# Altium schematic symbol library Resistors-2512-Shunt.SchLib: 2 symbols
Pins are listed as number, name and electrical type; pins without a type are passive.

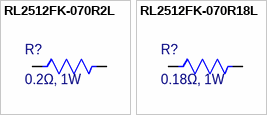
[diagram p0: symbols RL2512FK-070R2L to RL2512FK-070R18L]

## RL2512FK-070R2L
designator R?, comment 0.2Ω, 1W
RES 0.2 OHM 1% 1W 2512; Manufacturer: Yageo Group; Manufacturer Part Number: RL2512FK-070R2L; Description: 1W Thick Film Resistors ±1% ±600ppm/℃ 200mΩ 2512 Chip Resistor - Surface Mount ROHS; Value: 200mΩ; Temperature Coefficient: 600ppm/°C; Working Voltage: 447.2mV; Supplier: DigiKey; Supplier Part Number: 311-0.2TCT-ND; RoHS: Compliant; Category: Chip SMD Resistors; Stock: 22890; Pricing: 1=0.44, 10=0.249, 25=0.206, 50=0.1814, 100=0.1618, 250=0.142, 500=0.13056, 1000=0.12148 (USD); Case/Package: 2512; Case Code (Imperial): 2512; Case Code (Metric): 6332; China RoHS: Non-Compliant; Composition: Thick Film; Contact Plating: Lead, Tin; Country of Origin: Mainland China, Taiwan; Depth: 3.2mm; Export Control Classification Number (ECCN) Code: EAR99; Height: 550µm; Harmonized Tariff Schedule (HTS) Code: 8533.21.00.30; Introduction Date: 2005-04-15; Lead Free: Lead Free; Length: 6.35mm; Lifecycle Status: Production; Max Operating Temperature: 155°C; Military Standard: Not; Min Operating Temperature: -55°C; Mounting Technology: Surface Mount; Number of Terminals: 2; Power Rating: 1W; Ratings: AEC-Q200; REACH SVHC: Yes; Schedule B: 8533210045, 8533210045|8533210045, 8533210045|8533210045|8533210045, 8533210045|8533210045|8533210045|8533210045; Termination: SMD/SMT; Tolerance: 1%; Weight: 40.511469mg; Width: 3.2mm; ComponentLink1URL: https://datasheet.octopart.com:443/RL2512FK-070R2L-Yageo-datasheet-182189623.pdf?src-supplier=IHS; ComponentLink1Description: https://datasheet.octopart.com:443/RL2512FK-070R2L-Yageo-datasheet-182189623.pdf?src-supplier=IHS; ComponentLink2URL: https://datasheet.octopart.com:443/RL2512FK-070R2L-Yageo-datasheet-83209227.pdf?src-supplier=LCSC; ComponentLink2Description: https://datasheet.octopart.com:443/RL2512FK-070R2L-Yageo-datasheet-83209227.pdf?src-supplier=LCSC; ComponentLink3URL: https://datasheet.octopart.com:443/RL2512FK-070R2L-Yageo-Group-datasheet-178203169.pdf?src-supplier=Future+Electronics; ComponentLink3Description: https://datasheet.octopart.com:443/RL2512FK-070R2L-Yageo-Group-datasheet-178203169.pdf?src-supplier=Future+Electronics; ComponentLink4URL: https://datasheet.octopart.com:443/RL2512FK-070R2L-Yageo-datasheet-137700928.pdf?src-supplier=Future+Electronics; ComponentLink4Description: https://datasheet.octopart.com:443/RL2512FK-070R2L-Yageo-datasheet-137700928.pdf?src-supplier=Future+Electronics; ComponentLink5URL: https://datasheet.octopart.com:443/RL2512FK-070R2L-Yageo-datasheet-42224166.pdf?src-supplier=Future+Electronics; ComponentLink5Description: https://datasheet.octopart.com:443/RL2512FK-070R2L-Yageo-datasheet-42224166.pdf?src-supplier=Future+Electronics; ComponentLink6URL: https://datasheet.octopart.com:443/RL2512FK-070R2L-Yageo-datasheet-21255488.pdf?src-supplier=Future+Electronics; ComponentLink6Description: https://datasheet.octopart.com:443/RL2512FK-070R2L-Yageo-datasheet-21255488.pdf?src-supplier=Future+Electronics; ComponentLink7URL: https://datasheet.octopart.com:443/RL2512FK-070R2L-Yageo-datasheet-12526708.pdf?src-supplier=Future+Electronics; ComponentLink7Description: https://datasheet.octopart.com:443/RL2512FK-070R2L-Yageo-datasheet-12526708.pdf?src-supplier=Future+Electronics; ComponentLink8URL: https://datasheet.octopart.com:443/RL2512FK-070R2L-Yageo-datasheet-12521612.pdf?src-supplier=Future+Electronics; ComponentLink8Description: https://datasheet.octopart.com:443/RL2512FK-070R2L-Yageo-datasheet-12521612.pdf?src-supplier=Future+Electronics; ComponentLink9URL: https://datasheet.octopart.com/RL2512FK-070R2L-Yageo-datasheet-10916029.pdf; ComponentLink9Description: https://datasheet.octopart.com/RL2512FK-070R2L-Yageo-datasheet-10916029.pdf; ComponentLink10URL: http://sigma.octopart.com:80/conflict_mineral_statement/Yageo-company-3.pdf?src-supplier=Compliance+Statements; ComponentLink10Description: http://sigma.octopart.com:80/conflict_mineral_statement/Yageo-company-3.pdf?src-supplier=Compliance+Statements; ComponentLink11URL: http://sigma.octopart.com:80/rohs_statement/Yageo-company-2.pdf?src-supplier=Compliance+Statements; ComponentLink11Description: http://sigma.octopart.com:80/rohs_statement/Yageo-company-2.pdf?src-supplier=Compliance+Statements
footprint 2512-REFLOW
footprint 2512-WAVE
pins: 1, 2

## RL2512FK-070R18L
designator R?, comment 0.18Ω, 1W
RES 0.18 OHM 1% 1W 2512; Manufacturer: Yageo Group; Manufacturer Part Number: RL2512FK-070R18L; Value: 180mΩ; Temperature Coefficient: 600ppm/°C; Working Voltage: 424.3mV; Supplier: DigiKey; Supplier Part Number: 311-0.18TCT-ND; RoHS: Compliant; Category: Chip SMD Resistors; Stock: 7929; Pricing: 1=0.44, 10=0.249, 25=0.206, 50=0.1814, 100=0.1618, 250=0.142, 500=0.13056, 1000=0.12148 (USD); Case/Package: 2512; Case Code (Imperial): 2512; Case Code (Metric): 6332; China RoHS: Non-Compliant; Composition: Thick Film; Contact Plating: Tin; Depth: 3.2mm; Height: 550µm; Lead Free: Lead Free; Length: 6.35mm; Lifecycle Status: Production; Max Operating Temperature: 155°C; Military Standard: Not; Min Operating Temperature: -55°C; Mounting Technology: Surface Mount; Number of Terminals: 2; Packaging: Cut Tape; Power Rating: 1W; Radiation Hardening: No; Ratings: AEC-Q200; REACH SVHC: Yes; Schedule B: 8533210045, 8533210045|8533210045, 8533210045|8533210045|8533210045, 8533210045|8533210045|8533210045|8533210045; Termination: SMD/SMT; Tolerance: 1%; Weight: 40.511469mg; Width: 3.2mm; ComponentLink1URL: https://datasheet.octopart.com:443/RL2512FK-070R18L-Yageo-datasheet-182189623.pdf?src-supplier=Newark; ComponentLink1Description: https://datasheet.octopart.com:443/RL2512FK-070R18L-Yageo-datasheet-182189623.pdf?src-supplier=Newark; ComponentLink2URL: https://datasheet.octopart.com:443/RL2512FK-070R18L-Yageo-datasheet-8324393.pdf?src-supplier=Newark; ComponentLink2Description: https://datasheet.octopart.com:443/RL2512FK-070R18L-Yageo-datasheet-8324393.pdf?src-supplier=Newark; ComponentLink3URL: https://datasheet.octopart.com:443/RL2512FK-070R18L-Yageo-datasheet-62330055.pdf?src-supplier=element14+APAC; ComponentLink3Description: https://datasheet.octopart.com:443/RL2512FK-070R18L-Yageo-datasheet-62330055.pdf?src-supplier=element14+APAC; ComponentLink4URL: https://datasheet.octopart.com/RL2512FK-070R18L-Yageo-datasheet-10916029.pdf; ComponentLink4Description: https://datasheet.octopart.com/RL2512FK-070R18L-Yageo-datasheet-10916029.pdf; ComponentLink5URL: https://datasheet.octopart.com:443/RL2512FK-070R18L-Yageo-datasheet-178203169.pdf?src-supplier=Future+Electronics; ComponentLink5Description: https://datasheet.octopart.com:443/RL2512FK-070R18L-Yageo-datasheet-178203169.pdf?src-supplier=Future+Electronics; ComponentLink6URL: https://datasheet.octopart.com:443/RL2512FK-070R18L-Yageo-datasheet-83209227.pdf?src-supplier=Future+Electronics; ComponentLink6Description: https://datasheet.octopart.com:443/RL2512FK-070R18L-Yageo-datasheet-83209227.pdf?src-supplier=Future+Electronics; ComponentLink7URL: https://datasheet.octopart.com:443/RL2512FK-070R18L-Yageo-datasheet-137700928.pdf?src-supplier=Future+Electronics; ComponentLink7Description: https://datasheet.octopart.com:443/RL2512FK-070R18L-Yageo-datasheet-137700928.pdf?src-supplier=Future+Electronics; ComponentLink8URL: https://datasheet.octopart.com:443/RL2512FK-070R18L-Yageo-datasheet-62044473.pdf?src-supplier=Future+Electronics; ComponentLink8Description: https://datasheet.octopart.com:443/RL2512FK-070R18L-Yageo-datasheet-62044473.pdf?src-supplier=Future+Electronics; ComponentLink9URL: https://datasheet.octopart.com:443/RL2512FK-070R18L-Yageo-datasheet-61253474.pdf?src-supplier=Future+Electronics; ComponentLink9Description: https://datasheet.octopart.com:443/RL2512FK-070R18L-Yageo-datasheet-61253474.pdf?src-supplier=Future+Electronics; ComponentLink10URL: https://datasheet.octopart.com:443/RL2512FK-070R18L-Yageo-datasheet-60483056.pdf?src-supplier=Future+Electronics; ComponentLink10Description: https://datasheet.octopart.com:443/RL2512FK-070R18L-Yageo-datasheet-60483056.pdf?src-supplier=Future+Electronics; ComponentLink11URL: http://sigma.octopart.com:80/conflict_mineral_statement/Yageo-company-3.pdf?src-supplier=Compliance+Statements; ComponentLink11Description: http://sigma.octopart.com:80/conflict_mineral_statement/Yageo-company-3.pdf?src-supplier=Compliance+Statements; ComponentLink12URL: http://sigma.octopart.com:80/rohs_statement/Yageo-company-2.pdf?src-supplier=Compliance+Statements; ComponentLink12Description: http://sigma.octopart.com:80/rohs_statement/Yageo-company-2.pdf?src-supplier=Compliance+Statements
footprint 2512-REFLOW
footprint 2512-WAVE
pins: 1, 2